# Altium schematic symbol library 2024-Badge-Altium-Project-REV1.SCHLIB: 16 symbols
Pins are listed as number, name and electrical type; pins without a type are passive.

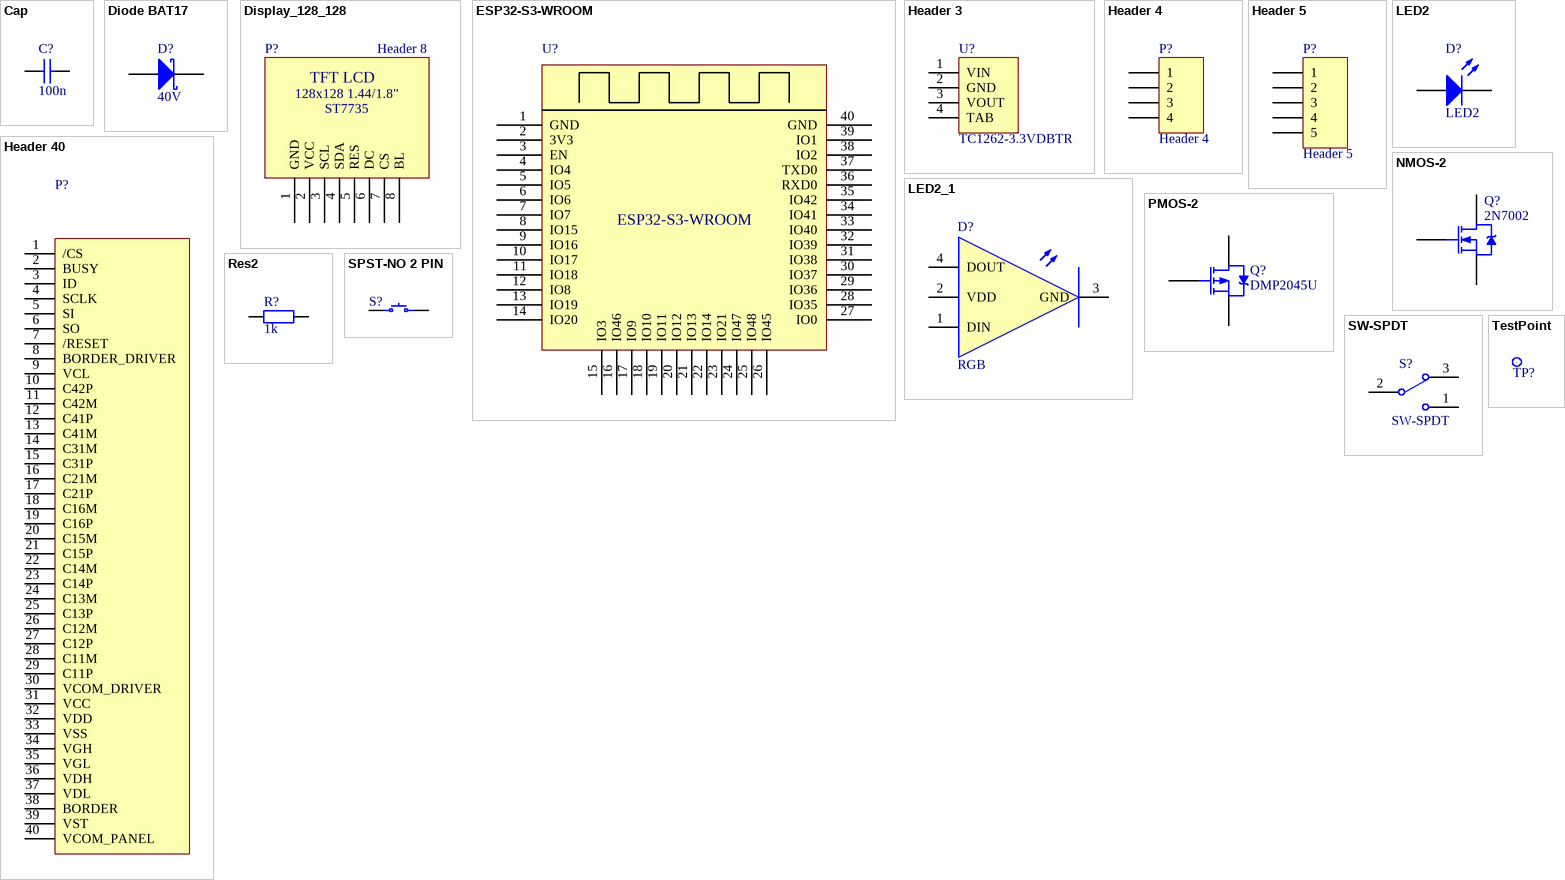
[diagram p0: symbols Cap to TestPoint]

## Cap
designator C?, comment 100n
CAP CER .1UF 10V X7R 0603; Manufacturer: Wurth Electronics Inc.; Manufacturer Part Number: 885012206020; Distributor: Digikey; Distributor Part Number: 732-7939-1-ND
footprint 0603C (Chip Capacitor, Body 1.6x0.8mm, IPC High Density)
pins: 1, 2

## Diode BAT17
designator D?, comment 40V
DIODE SCHOTTKY 40V 2A SOD123FL; Manufacturer: Panjit International Inc.; Manufacturer Part Number: SS2040FL_R1_00001; Distributor: Digikey; Distributor Part Number: 3757-SS2040FL_R1_00001CT-ND
footprint SOD-123FL (DIODE SCHOTTKY 40V 2A SOD123FL)
pins: 1 K, 2 A

## Display_128_128
designator P?, comment Header 8
1.44" 128x128 65K SPI Full Color TFT LCD Display Module ST7735 OLED for Arduino; Manufacturer: Mill-Max; Manufacturer Part Number: 7406-0-15-15-18-27-10-0; MFG-Comment: 8 each for P2; Old Header: S7006-ND; Distributor: DigiKey; Distributor Part Number: ED90446-ND
footprint TFT144SPI (1.44" 128x128 65K SPI Full Color TFT LCD Display Module ST7735 OLED for Arduino)
pins: 1 GND, 2 VCC, 3 SCL, 4 SDA, 5 RES, 6 DC, 7 CS, 8 BL
text: TFT LCD; 128x128 1.44/1.8"; ST7735

## ESP32-S3-WROOM
designator U?  (value not drawn)
Bluetooth, WiFi 802.11b/g/n, Bluetooth v5.0 Transceiver Module 2.4GHz PCB Trace Surface Mount; Manufacturer: Espressif Systems; Manufacturer Part Number: ESP32-S3-WROOM-1-N16R8; MFG-Comment: No Solder paste on large GND pad, No solder paste on extra pads!!  See OS-2020-Badge-REV0-Assembly-Revised.pdf; Distributor: Digikey; Distributor Part Number: 1965-ESP32-S3-WROOM-1-N16R8TR-ND
footprint ESP32-S3-WROOM-1-N16R8
pins: 1 GND, 2 3V3, 3 EN, 4 IO4, 5 IO5, 6 IO6, 7 IO7, 8 IO15, 9 IO16, 10 IO17, 11 IO18, 12 IO8, 13 IO19, 14 IO20, 15 IO3, 16 IO46, 17 IO9, 18 IO10, 19 IO11, 20 IO12, 21 IO13, 22 IO14, 23 IO21, 24 IO47, 25 IO48, 26 IO45, 27 IO0, 28 IO35, 29 IO36, 30 IO37, 31 IO38, 32 IO39, 33 IO40, 34 IO41, 35 IO42, 36 RXD0, 37 TXD0, 38 IO2, 39 IO1, 40 GND

## Header 3
designator U?, comment TC1262-3.3VDBTR
IC REG LINEAR 3.3V 500mA SOT223-3; Manufacturer: Microchip Technology; Manufacturer Part Number: TC1262-3.3VDBTR; Distributor: Digikey; Distributor Part Number: TC1262-3.3VDBCT-ND
footprint SOT-223-2 (SOT-223/SC-73; 4 Leads; Body 6.7 x 7.3 mm, inc. leads (LxW max))
pins: 1 VIN, 2 GND, 3 VOUT, 4 TAB

## Header 4
designator P?
Header, 4-Pin; Manufacturer: Wurth Elektronik; Manufacturer Part Number: 61300411121; Distributor: Digi-Key; Distributor Part Number: 732-5317-ND
footprint HDR1X4 (Connector; Header; 4 Position)
signal-integrity model Connector
pins: 1, 2, 3, 4

## Header 5
designator P?
Adafruit Micro-Lipo Charger for LiPoly Batt with USB Type C Jack; Manufacturer: Mill-Max; Manufacturer Part Number: 7406-0-15-15-18-27-10-0; MFG-Comment: 5 each for P5; Distributor: Digikey; Distributor Part Number: ED90446-ND
footprint Micro-Lipo-USBC (Adafruit MicroLipo USB Charger)
pins: 1, 2, 3, 4, 5

## Header 40
designator P?, comment CONN FPC TOP 40POS 0.5MM R/A  (value not drawn)
Manufacturer: Amphenol ICC (FCI); Manufacturer Part Number: 62684-402100ALF; Distributor: Digi-Key; Distributor Part Number: 609-1200-1-ND
footprint AMPHENOL_62684-402100AHLF
pins: 1 /CS, 2 BUSY, 3 ID, 4 SCLK, 5 SI, 6 SO, 7 /RESET, 8 BORDER_DRIVER, 9 VCL, 10 C42P, 11 C42M, 12 C41P, 13 C41M, 14 C31M, 15 C31P, 16 C21M, 17 C21P, 18 C16M, 19 C16P, 20 C15M, 21 C15P, 22 C14M, 23 C14P, 24 C13M, 25 C13P, 26 C12M, 27 C12P, 28 C11M, 29 C11P, 30 VCOM_DRIVER, 31 VCC, 32 VDD, 33 VSS, 34 VGH, 35 VGL, 36 VDH, 37 VDL, 38 BORDER, 39 VST, 40 VCOM_PANEL

## LED2
designator D?
LED ORANGE CLEAR CHIP SMD; Manufacturer: Kingbright; Manufacturer Part Number: AOT1608SECK; Distributor: Digi-Key; Distributor Part Number: 754-1120-1-ND
footprint 3.2X1.6X1.1 (SMT LED; 2 Flat Leads)
simulation model LED2 (Diode)
footprint 0603LED (Chip Diode; Body 1.6 x 0.9 mm (LxW typ))
pins: 1 A, 2 K

## LED2_1
designator D?, comment RGB
ADDRESS LED DISCR SERIAL RGB; Manufacturer: Spark Fun; Manufacturer Part Number: COM-12986; Distributor: Digi-Key; Distributor Part Number: 1568-1213-ND
footprint COM-12986 (ADDRESS LED DISCR SERIAL RGB 5PC)
pins: 1 DIN, 2 VDD, 3 GND, 4 DOUT

## NMOS-2
designator Q?, comment 2N7002
MOSFET N-CH 60V 280MA SOT23-3; Manufacturer: Diotec Semiconductor; Distributor: Digikey; Distributor Part Number: 4878-2N7002CT-ND; Manufacturer Part Number: 2N7002
footprint SOT-23-N (MOSFET N-CH 60V 280MA SOT23-3)
pins: 1 G, 2 S, 3 D

## PMOS-2
designator Q?, comment DMP2045U
P-Channel Power MOSFET; Manufacturer: Diodes Incorporated; Manufacturer Part Number: DMP2045U-7; Distributor: Digikey; Distributor Part Number: DMP2045U-7DICT-ND
footprint TO-220AB (TO, Thru-Hole, Vertical, Heatsink Mounted; 3 In-Line Leads; Pitch 2.54 mm)
simulation model IRF9510 (Spice Subcircuit)
footprint SOT-23-P
pins: D, G, S

## Res2
designator R?, comment 1k
RES SMD 1K OHM 5% 1/10W 0603; Manufacturer: Yageo; Manufacturer Part Number: RC0603JR-071KL; Value: 1k; Distributor: Digikey; Distributor Part Number: 311-1.0KGRCT-ND
footprint 0603R (Chip Resistor; Body 1.6 x 0.9 mm (LxW typ))
pins: 1, 2

## SPST-NO 2 PIN
designator S?, comment SPST-NO  (value not drawn)
Tactile Switch SPST-NO Top Actuated Through Hole; Manufacturer: C&K; Manufacturer Part Number: PTS636 SL43 LFS; Distributor: Digikey; Distributor Part Number: CKN12301-ND
footprint PTS636SL43LFS (Tactile Switch SPST-NO Top Actuated Through Hole)
pins: 1, 2

## SW-SPDT
designator S?
SWITCH SLIDE SPDT 200MA 30V; Manufacturer: E-Switch; Manufacturer Part Number: EG1218; Distributor Part Number: EG1903-ND; Distributor: Digikey
footprint HDR1X3 (Connector; Header; 3 Position)
pins: 1, 2, 3

## TestPoint
designator TP?, comment Test Point  (value not drawn)
Test Point Do Not Populate; Manufacturer: NONE; MFG-Comment: DO NOT POPULATE!; Distributor: NONE; Distributor Part Number: NONE; Manufacturer Part Number: NONE
footprint Testpoint
pins: 1
2 alternate drawings of the same symbol